# Altium integrated library Connectors - Terminals.IntLib: 24 symbols
Pins are listed as number, name and electrical type; pins without a type are passive.

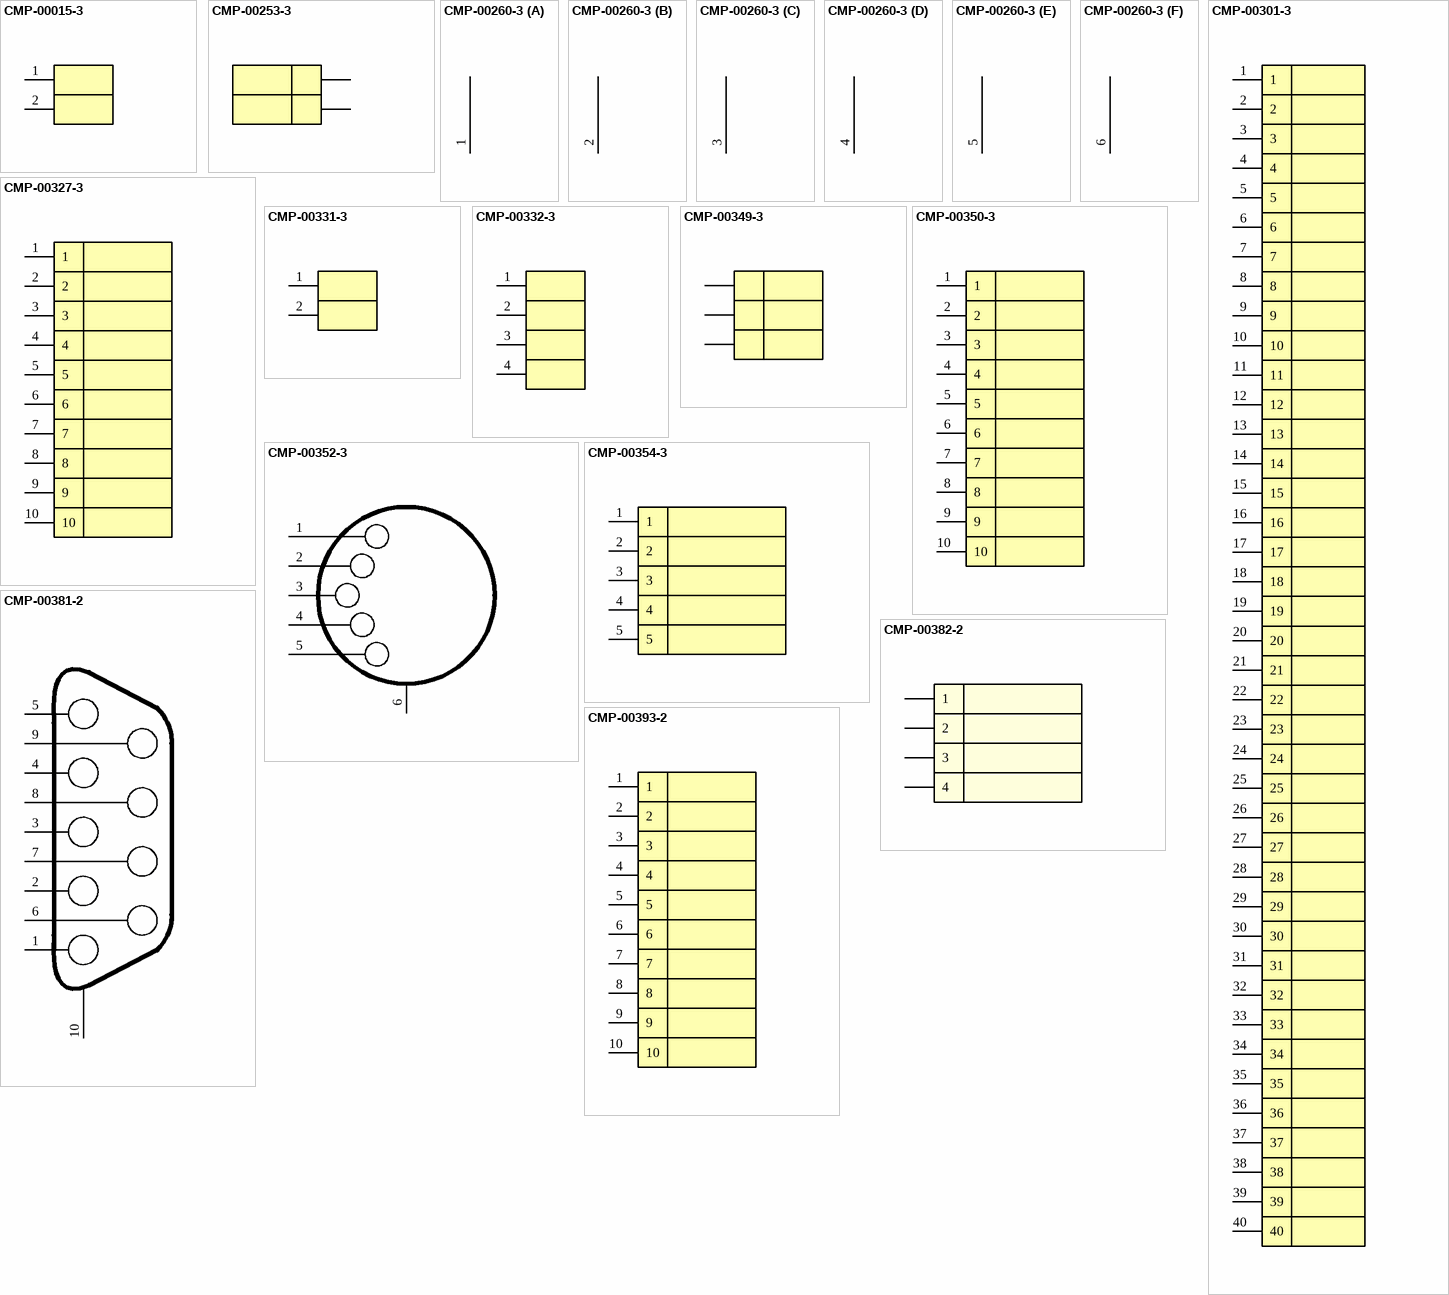
[diagram p0: symbols CMP-00015-3 to CMP-00393-2]

## CMP-00015-3
designator X?, comment DG128-2
DG128-2, 5.0mm; Component Name: Terminal block, DG128-2 pins, 5.0 mm; Package: 5.0; Marking: DG128-2; Value: DG128-2; ComponentLink1Description: Datasheet; ComponentLink1URL: http://www.degson.com/20081120/epdf/359.pdf; Mounting type: PTH
footprint DG128-2
pins: 1, 2

## CMP-00253-3
designator XP?, comment 2EDGR
2EDGR, 5.08mm; Component Name: Connector, 2EDGR-2 pins, 5.08; Package: 5.08; Marking: 2EDGR; Value: 2EDGR; ComponentLink1Description: Datasheet; ComponentLink1URL: http://www.degson.com/20081120/epdf/528.pdf; Mounting type: PTH
footprint 2EDGR(5.08)
pins: 1, 2

## CMP-00260-3
designator XP?, comment BH-6
BH-6, 2.54mm; Component Name: Connector, 6 pins, BH-6, 2.54mm; Package: 2.54; Marking: BH-6; Value: BH-6; ComponentLink1Description: Datasheet; ComponentLink1URL: http://www.betatvcom.dn.ua/komplekt/pdf/connectors/NCH/bh.pdf; Mounting type: PTH
footprint BH-6
part A pins: 1
part B pins: 2
part C pins: 3
part D pins: 4
part E pins: 5
part F pins: 6

## CMP-00301-3
designator XS?, comment BH-40
BH-40, 2.54mm; Component Name: Connector, 40 pins, BH-40, 2.54mm; Package: 2.54; Marking: BH-40; Value: BH-40; ComponentLink1Description: Datasheet; ComponentLink1URL: http://www.betatvcom.dn.ua/komplekt/pdf/connectors/NCH/bh.pdf; Mounting type: PTH
footprint BH-40
pins: 1, 2, 3, 4, 5, 6, 7, 8, 9, 10, 11, 12, 13, 14, 15, 16, 17, 18, 19, 20, 21, 22, 23, 24, 25, 26, 27, 28, 29, 30, 31, 32, 33, 34, 35, 36, 37, 38, 39, 40

## CMP-00327-3
designator XS?, comment BH-10
BH-10, 2.54mm; Component Name: Connector, 10 pins, BH-10, 2.54mm; Package: 2.54; Marking: BH-10; Value: BH-10; ComponentLink1Description: Datasheet; ComponentLink1URL: http://www.betatvcom.dn.ua/komplekt/pdf/connectors/NCH/bh.pdf; Mounting type: PTH
footprint IDC-10R 1.27
pins: 1, 2, 3, 4, 5, 6, 7, 8, 9, 10

## CMP-00331-3
designator X?, comment DG350-2
DG350-2 pins, 3.5 mm; Component Name: Terminal block, DG350-2 pins, 3.5 mm; Package: 3.5; Marking: DG350-2; Value: DG350-2; ComponentLink1Description: Datasheet; ComponentLink1URL: http://www.degson.com/20081120/epdf/393.pdf; Mounting type: PTH
footprint DG350-3.5-02
pins: 1, 2

## CMP-00332-3
designator X?, comment DG350-4
DG350-4 pins, 3.5 mm; Component Name: Terminal block, DG350-4 pins, 3.5 mm; Package: 3.5; Marking: DG350-4; Value: DG350-4; ComponentLink1Description: Datasheet; ComponentLink1URL: http://www.degson.com/20081120/epdf/393.pdf; Mounting type: PTH
footprint DG350-3.5-04
pins: 1, 2, 3, 4

## CMP-00349-3
designator XP?, comment 2EDGR
3EDGR, 5.08mm; Component Name: Connector, 2EDGR-3 pins, 5.08; Package: 5.08; Marking: 2EDGR; Value: 2EDGR; ComponentLink1Description: Datasheet; ComponentLink1URL: http://www.degson.com/20081120/epdf/528.pdf; Mounting type: PTH
footprint 3EDGR (5.08)
pins: 1, 2, 3

## CMP-00350-3
designator X?, comment DRB 9F
Component Name: Connector, DRB 9F; Package: DRB 9F; Marking: DRB 9F; Value: DRB 9F; ComponentLink1Description: Datasheet; ComponentLink1URL: http://www.symmetron.ru/suppliers/commutation/commutation19-appendix.pdf; Mounting type: PTH
footprint D-SUB 9pin
pins: 1, 2, 3, 4, 5, 6, 7, 8, 9, 10

## CMP-00352-3
designator X?, comment DIN-5 180
Component Name: Connector, DIN-5, 180 degree, PTH; Package: DIN-5 180; Marking: DIN-5 180; Value: DIN-5 180; ComponentLink1Description: Datasheet; ComponentLink1URL: http://www.mouser.com/ds/2/393/57PC5F_CD-478737.pdf; Mounting type: PTH
footprint DIN-5 180
pins: 1, 2, 3, 4, 5, 6

## CMP-00354-3
designator X?, comment DIN-4
Component Name: Connector, DIN-4, 490-MD-40S, PTH; Package: 12.8x14x12.5; Marking: DIN-4; Value: DIN-4; ComponentLink1Description: Datasheet; ComponentLink1URL: http://www.mouser.com/ds/2/670/md-xxs-515936.pdf; Mounting type: PTH
footprint DIN-4
pins: 1, 2, 3, 4, 5

## CMP-00381-2
designator X?, comment DB-9M
Component Name: Connector, DB-9M; Marking: DB-9M; Package: DB-9M; Value: DB-9M; ComponentLink1Description: Datasheet; ComponentLink1URL: http://www.symmetron.ru/suppliers/commutation/commutation19-appendix.pdf; Mounting type: PTH
pins: 1, 2, 3, 4, 5, 6, 7, 8, 9, 10

## CMP-00382-2
designator X?, comment MiniDin-4
Component Name: Connector, MiniDin-4; Marking: MiniDin-4; Value: MiniDin-4; Package: MiniDin-4; ComponentLink1Description: Datasheet; ComponentLink1URL: http://www.mouser.com/ds/2/670/md-515791.pdf; Mounting type: Cable
pins: 1, 2, 3, 4

## CMP-00393-2
designator XS?, comment IDC-10
Component Name: Connector, 10 pins, IDC-10, 2.54mm; Marking: IDC-10; Package: 2.54; Value: IDC-10; ComponentLink1Description: Datasheet; ComponentLink1URL: http://www.kontest.ru/datasheet/unkn0wn/idc40f.pdf; Mounting type: PTH
pins: 1, 2, 3, 4, 5, 6, 7, 8, 9, 10

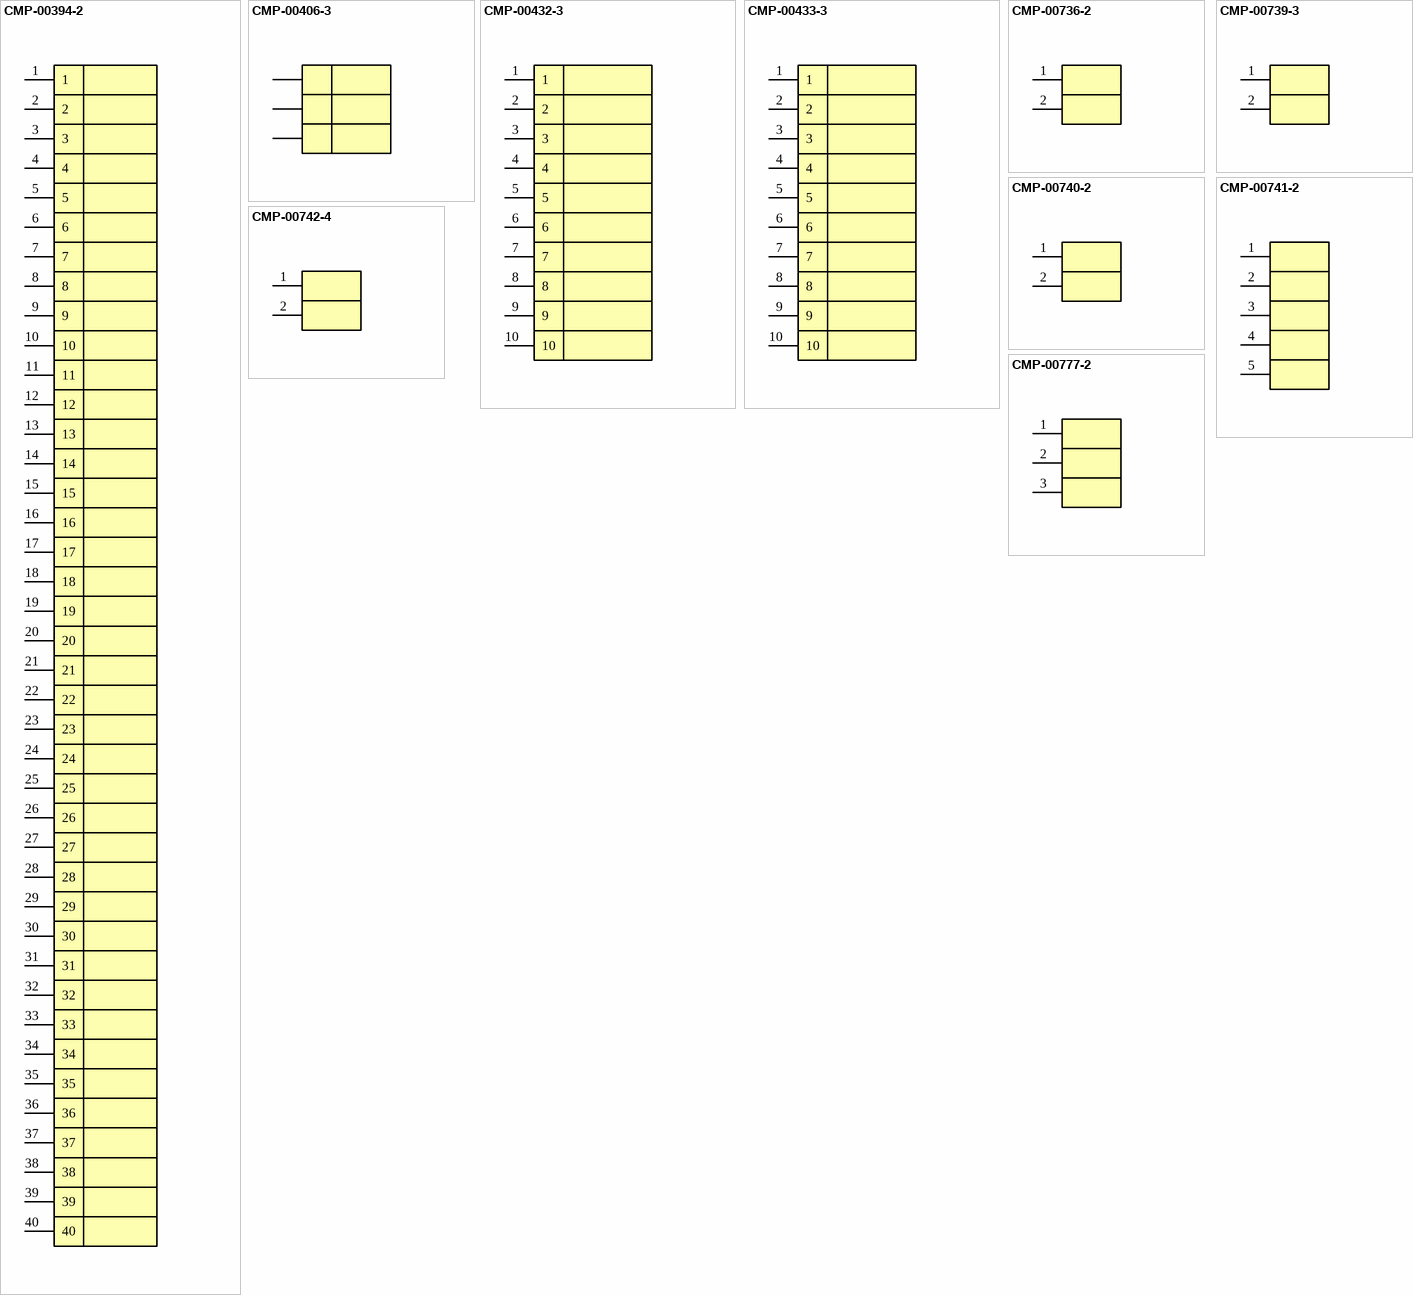
[diagram p1: symbols CMP-00394-2 to CMP-00777-2]

## CMP-00394-2
designator XS?, comment IDC-40
Component Name: Connector, 40 pins, IDC-40, 2.54mm; Marking: IDC-40; Package: 2.54; Value: IDC-40; ComponentLink1Description: Datasheet; ComponentLink1URL: http://www.kontest.ru/datasheet/unkn0wn/idc40f.pdf; Mounting type: PTH
pins: 1, 2, 3, 4, 5, 6, 7, 8, 9, 10, 11, 12, 13, 14, 15, 16, 17, 18, 19, 20, 21, 22, 23, 24, 25, 26, 27, 28, 29, 30, 31, 32, 33, 34, 35, 36, 37, 38, 39, 40

## CMP-00406-3
designator XP?, comment DG500
DG500-5.08-03; Component Name: Connector, DG500-5.08-03; Package: 5.08; Marking: DG500; Value: DG500; ComponentLink1Description: Datasheet; ComponentLink1URL: http://www.rcscomponents.com/datasheets/DG500.pdf; Mounting type: PTH
footprint DG500-5.08-03
pins: 1, 2, 3

## CMP-00432-3
designator XS?, comment IDC-10
IDC-10, 1.27mm; Component Name: Connector, 10 pins, SMD, IDC-10, 1.27mm; Package: 1.27; Marking: IDC-10; Value: IDC-10; ComponentLink1Description: Datasheet; ComponentLink1URL: http://dblectro.com/wp-content/uploads/2014/10/3731-en.pdf; Mounting type: SMD
footprint IDC-10R 1.27
pins: 1, 2, 3, 4, 5, 6, 7, 8, 9, 10

## CMP-00433-3
designator XS?, comment IDC-10R
IDC-10R, 1.27mm; Component Name: Connector, 10 pins, IDC-10R, 1.27mm; Package: 1.27; Marking: IDC-10R; Value: IDC-10R; ComponentLink1Description: Datasheet; ComponentLink1URL: http://dblectro.com/wp-content/uploads/2014/10/3731-en.pdf; Mounting type: PTH
footprint IDC-10R 1.27
pins: 1, 2, 3, 4, 5, 6, 7, 8, 9, 10

## CMP-00736-2
designator X?, comment Pico-SPOX
874370243; Component Name: Crimp Terminal, Pico-SPOX-2 pins, 874370243, 1.5mm; ComponentLink1URL: http://www.molex.com/pdm_docs/sd/874370243_sd.pdf; Value: 874370243; ComponentLink1Description: Datasheet; Mounting type: SMD; Marking: Pico-SPOX; Package: 1.5
footprint 874370243-2p
pins: 1, 2

## CMP-00739-3
designator X?, comment Pico-SPOX
87438-0243; Component Name: Crimp Terminal, Pico-SPOX-2 pins, 874380243, 1.5mm; Value: 874380243; Package: 1.5; Marking: Pico-SPOX; ComponentLink1Description: Datasheet; ComponentLink1URL: http://www.molex.com/pdm_docs/sd/874380243_sd.pdf; Mounting type: SMD
footprint 874380243-2p
pins: 1, 2

## CMP-00740-2
designator X?, comment DuraClik
502352-0202; Component Name: Crimp Terminal, DuraClik-2 pins, 502352-0202, 2mm; Package: 2; Marking: DuraClik; Value: 502352-0202; ComponentLink1Description: Datasheet; ComponentLink1URL: http://www.molex.com/pdm_docs/sd/5023520202_sd.pdf; Mounting type: SMD
footprint 502352-0202
pins: 1, 2

## CMP-00741-2
designator X?, comment Pico-SPOX
87438-0543; Component Name: Crimp Terminal, Pico-SPOX-5 pins, 874380543, 1.5mm; Value: 874380543; Package: 1.5; Marking: Pico-SPOX; ComponentLink1Description: Datasheet; ComponentLink1URL: http://www.molex.com/pdm_docs/sd/874380543_sd.pdf; Mounting type: SMD
footprint 87438-0543
pins: 1, 2, 3, 4, 5

## CMP-00742-4
designator X?, comment Micro-Fit 3.0
43045-0200; Component Name: Crimp Terminal, Micro-Fit 3.0-2 pins, 43045-0200, 3mm; Package: 3; Marking: Micro-Fit 3.0; Value: 43045-0200; ComponentLink1Description: Datasheet; ComponentLink1URL: http://www.molex.com/pdm_docs/sd/430450200_sd.pdf; Mounting type: SMD
footprint 43045-0200
pins: 1, 2

## CMP-00777-2
designator X?, comment DG350-3
DG350-3 pins, 3.5 mm; Component Name: Terminal block, DG350-3 pins, 3.5 mm; Package: 3.5; Marking: DG350-3; Value: DG350-3; ComponentLink1Description: Datasheet; ComponentLink1URL: http://www.degson.com/20081120/epdf/393.pdf; Mounting type: PTH
footprint DG350-3.5-3
pins: 1, 2, 3